# EAGLE library part LM78S40 (library yb-library)
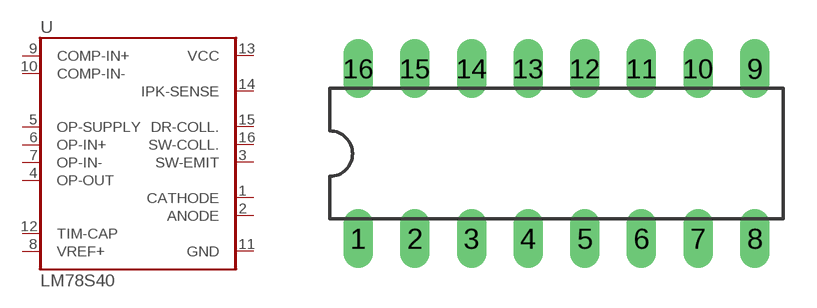
[diagram p0: symbol with the pads of DIL16; footprint DIL16]

Designator prefix -

## LM78S40  [DIL16]
1  CATHODE  pas
2  ANODE  pas
3  SW-EMIT  pas
4  OP-OUT  out
5  OP-SUPPLY  pwr
6  OP-IN+  in
7  OP-IN-  in
8  VREF+  out
9  COMP-IN+  in
10  COMP-IN-  in
11  GND  pwr
12  TIM-CAP  pas
13  VCC  pwr
14  IPK-SENSE  pas
15  DR-COLL.  pas
16  SW-COLL.  pas

## Footprint DIL16 (pad centres in mm)
drill 0.813 long: 1 -13.97,-2.54; 2 -11.43,-2.54; 3 -8.89,-2.54; 4 -6.35,-2.54; 5 -3.81,-2.54; 6 -1.27,-2.54; 7 1.27,-2.54; 8 3.81,-2.54; 9 3.81,5.08; 10 1.27,5.08; 11 -1.27,5.08; 12 -3.81,5.08; 13 -6.35,5.08; 14 -8.89,5.08; 15 -11.43,5.08; 16 -13.97,5.08